# Altium schematic symbol library conn_header_1mm_st_smd.SchLib: 42 symbols
Pins are listed as number, name and electrical type; pins without a type are passive.

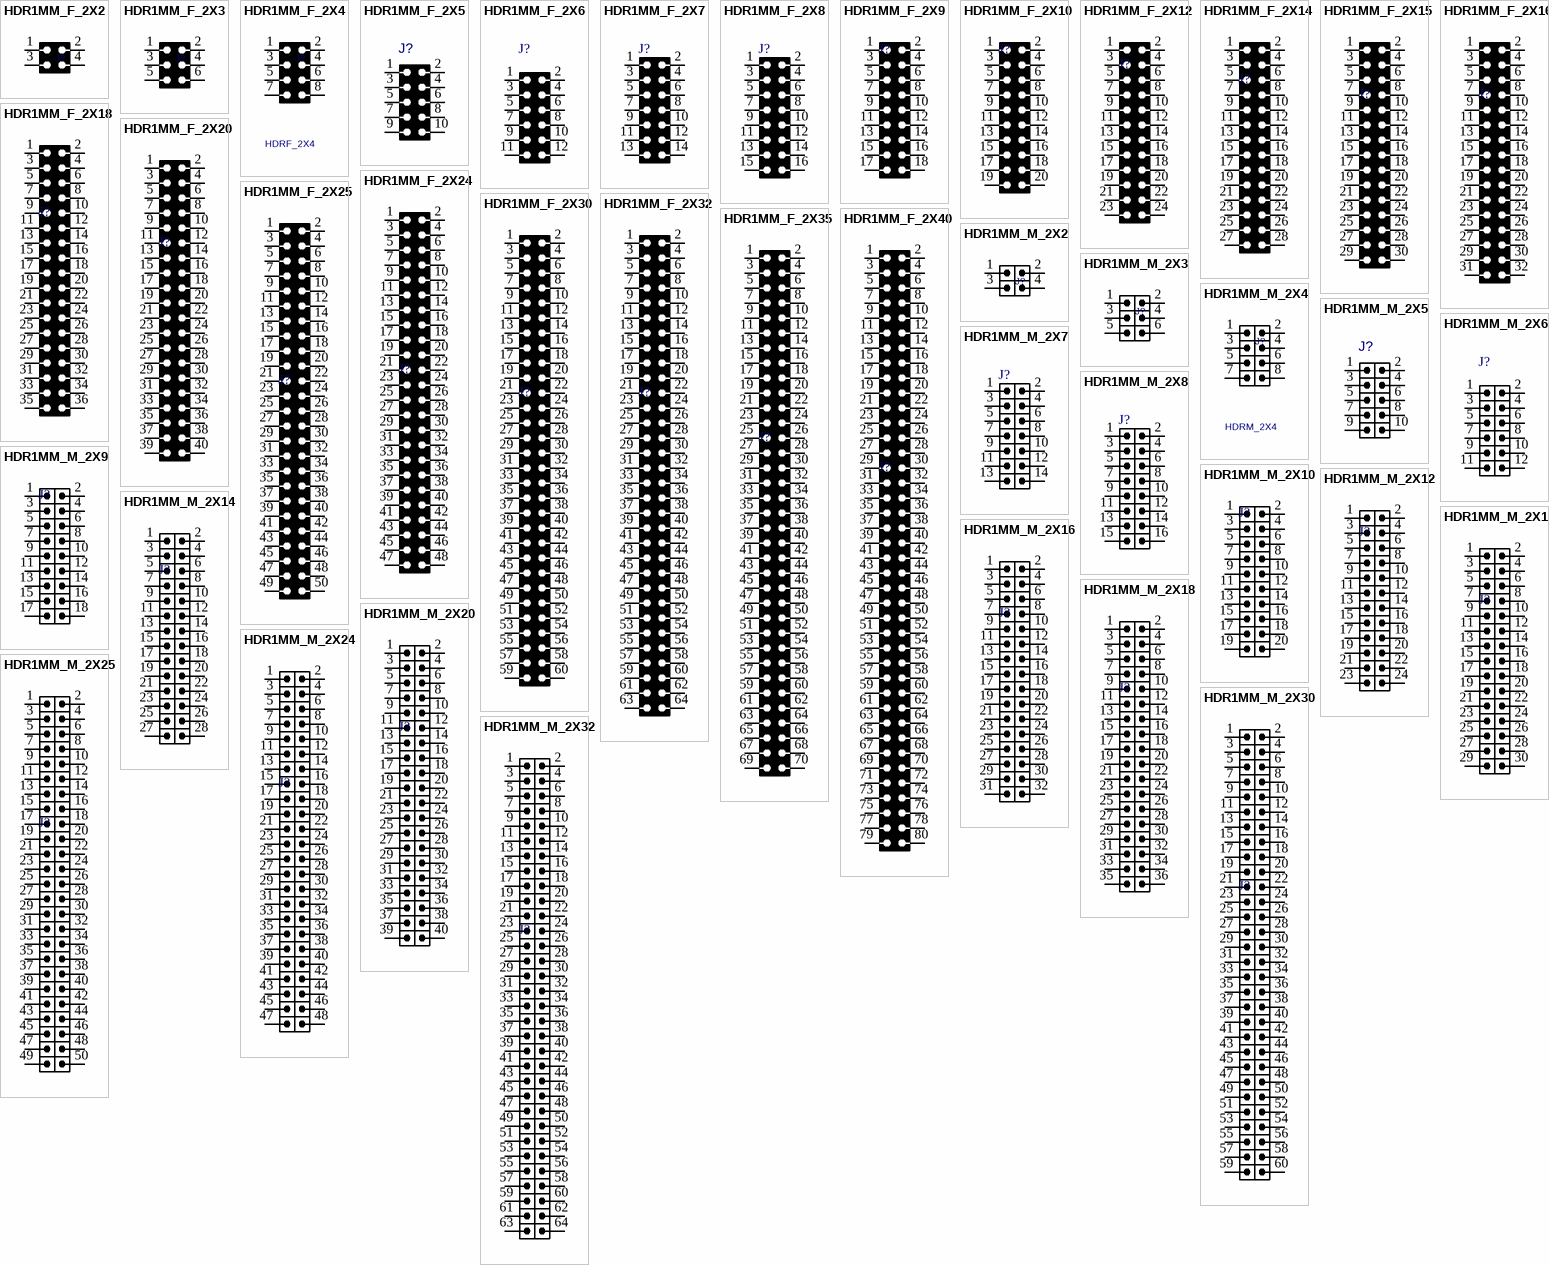
[diagram p0: symbols HDR1MM_F_2X2 to HDR1MM_M_2X32]

## HDR1MM_F_2X2
designator J?, comment HDRF_2X2  (value not drawn)
CONN, HEADER, Female, pitch: 1.0mm; MANF_P#: BC085-04-A-0390-L-C; MANF: GCT; VALUE: HDRF_2X2
footprint HDR1MM_F_2X2 (HEADER, 1mm, SMD, GCT CO BC084 and BC085)
pins: 1, 2, 3, 4

## HDR1MM_F_2X3
designator J?, comment HDRF_2X3  (value not drawn)
CONN, HEADER, Female, pitch: 1.0mm; MANF_P#: BC084-06-A-0390-L-C; MANF: GCT; VALUE: HDRF_2X3
footprint HDR1MM_F_2X3 (HEADER, 1mm, SMD, GCT CO BC084 and BC085)
pins: 1, 2, 3, 4, 5, 6

## HDR1MM_F_2X4
designator J?, comment HDRF_2X4
CONN, HEADER, Female, pitch: 1.0mm; MANF_P#: BC084-08-A-0390-L-C; MANF: GCT; VALUE: HDRF_2X4
footprint HDR1MM_F_2X4 (HEADER, 1mm, SMD, GCT CO BC084 and BC085)
pins: 1, 2, 3, 4, 5, 6, 7, 8

## HDR1MM_F_2X5
designator J?, comment HDRF_2X5  (value not drawn)
CONN, HEADER, Female, pitch: 1.0mm; MANF: GCT; MANF_P#: BC084-10-A-0390-L-C; VALUE: HDRF_2X5
footprint HDR1MM_F_2X5 (HEADER, 1mm, SMD, GCT CO BC084 and BC085)
pins: 1, 2, 3, 4, 5, 6, 7, 8, 9, 10

## HDR1MM_F_2X6
designator J?, comment HDRF_2X6  (value not drawn)
CONN, HEADER, Female, pitch: 1.0mm; MANF: GCT; MANF_P#: BC084-12-A-0390-L-C; VALUE: HDRF_2X6
footprint HDR1MM_F_2X6 (HEADER, 1mm, SMD, GCT CO BC084 and BC085)
pins: 1, 2, 3, 4, 5, 6, 7, 8, 9, 10, 11, 12

## HDR1MM_F_2X7
designator J?, comment HDRF_2X7  (value not drawn)
CONN, HEADER, Female, pitch: 1.0mm; MANF: GCT; MANF_P#: BC084-14-A-0390-L-C; VALUE: HDRF_2X7
footprint HDR1MM_F_2X7 (HEADER, 1mm, SMD, GCT CO BC084 and BC085)
pins: 1, 2, 3, 4, 5, 6, 7, 8, 9, 10, 11, 12, 13, 14

## HDR1MM_F_2X8
designator J?, comment HDRF_2X8  (value not drawn)
CONN, HEADER, Female, pitch: 1.0mm; MANF: GCT; MANF_P#: BC084-16-A-0390-L-C; VALUE: HDRF_2X8
footprint HDR1MM_F_2X8 (HEADER, 1mm, SMD, GCT CO BC084 and BC085)
pins: 1, 2, 3, 4, 5, 6, 7, 8, 9, 10, 11, 12, 13, 14, 15, 16

## HDR1MM_F_2X9
designator J?, comment HDRF_2X9  (value not drawn)
CONN, HEADER, Female, pitch: 1.0mm; MANF: GCT; MANF_P#: BC084-18-A-0390-L-C; VALUE: HDRF_2X9
footprint HDR1MM_F_2X9 (HEADER, 1mm, SMD, GCT CO BC084 and BC085)
pins: 1, 2, 3, 4, 5, 6, 7, 8, 9, 10, 11, 12, 13, 14, 15, 16, 17, 18

## HDR1MM_F_2X10
designator J?, comment HDRF_2X10  (value not drawn)
CONN, HEADER, Female, pitch: 1.0mm; MANF: GCT; MANF_P#: BC084-20-A-0390-L-C; VALUE: HDRF_2X10
footprint HDR1MM_F_2X10 (HEADER, 1mm, SMD, GCT CO BC084 and BC085)
pins: 1, 2, 3, 4, 5, 6, 7, 8, 9, 10, 11, 12, 13, 14, 15, 16, 17, 18, 19, 20

## HDR1MM_F_2X12
designator J?, comment HDRF_2X12  (value not drawn)
CONN, HEADER, Female, pitch: 1.0mm; MANF: GCT; MANF_P#: BC084-24-A-0390-L-C; VALUE: HDRF_2X12
footprint HDR1MM_F_2X12 (HEADER, 1mm, SMD, GCT CO BC084 and BC085)
pins: 1, 2, 3, 4, 5, 6, 7, 8, 9, 10, 11, 12, 13, 14, 15, 16, 17, 18, 19, 20, 21, 22, 23, 24

## HDR1MM_F_2X14
designator J?, comment HDRF_2X14  (value not drawn)
CONN, HEADER, Female, pitch: 1.0mm; MANF: GCT; MANF_P#: BC084-28-A-0390-L-C; VALUE: HDRF_2X14
footprint HDR1MM_F_2X14 (HEADER, 1mm, SMD, GCT CO BC084 and BC085)
pins: 1, 2, 3, 4, 5, 6, 7, 8, 9, 10, 11, 12, 13, 14, 15, 16, 17, 18, 19, 20, 21, 22, 23, 24, 25, 26, 27, 28

## HDR1MM_F_2X15
designator J?, comment HDRF_2X15  (value not drawn)
CONN, HEADER, Female, pitch: 1.0mm; MANF: GCT; MANF_P#: BC084-30-A-0390-L-C; VALUE: HDRF_2X15
footprint HDR1MM_F_2X15 (HEADER, 1mm, SMD, GCT CO BC084 and BC085)
pins: 1, 2, 3, 4, 5, 6, 7, 8, 9, 10, 11, 12, 13, 14, 15, 16, 17, 18, 19, 20, 21, 22, 23, 24, 25, 26, 27, 28, 29, 30

## HDR1MM_F_2X16
designator J?, comment HDRF_2X16  (value not drawn)
CONN, HEADER, Female, pitch: 1.0mm; MANF: GCT; MANF_P#: BC084-32-A-0390-L-C; VALUE: HDRF_2X16
footprint HDR1MM_F_2X16 (HEADER, 1mm, SMD, GCT CO BC084 and BC085)
pins: 1, 2, 3, 4, 5, 6, 7, 8, 9, 10, 11, 12, 13, 14, 15, 16, 17, 18, 19, 20, 21, 22, 23, 24, 25, 26, 27, 28, 29, 30, 31, 32

## HDR1MM_F_2X18
designator J?, comment HDRF_2X18  (value not drawn)
CONN, HEADER, Female, pitch: 1.0mm; MANF: GCT; MANF_P#: BC084-36-A-0390-L-C; VALUE: HDRF_2X18
footprint HDR1MM_F_2X18 (HEADER, 1mm, SMD, GCT CO BC084 and BC085)
pins: 1, 2, 3, 4, 5, 6, 7, 8, 9, 10, 11, 12, 13, 14, 15, 16, 17, 18, 19, 20, 21, 22, 23, 24, 25, 26, 27, 28, 29, 30, 31, 32, 33, 34, 35, 36

## HDR1MM_F_2X20
designator J?, comment HDRF_2X20  (value not drawn)
CONN, HEADER, Female, pitch: 1.0mm; MANF: GCT; MANF_P#: BC084-40-A-0390-L-C; VALUE: HDRF_2X20
footprint HDR1MM_F_2X20 (HEADER, 1mm, SMD, GCT CO BC084 and BC085)
pins: 1, 2, 3, 4, 5, 6, 7, 8, 9, 10, 11, 12, 13, 14, 15, 16, 17, 18, 19, 20, 21, 22, 23, 24, 25, 26, 27, 28, 29, 30, 31, 32, 33, 34, 35, 36, 37, 38, 39, 40

## HDR1MM_F_2X24
designator J?, comment HDRF_2X24  (value not drawn)
CONN, HEADER, Female, pitch: 1.0mm; MANF: GCT; MANF_P#: BC084-48-A-0390-L-C; VALUE: HDRF_2X24
footprint HDR1MM_F_2X24 (HEADER, 1mm, SMD, GCT CO BC084 and BC085)
pins: 1, 2, 3, 4, 5, 6, 7, 8, 9, 10, 11, 12, 13, 14, 15, 16, 17, 18, 19, 20, 21, 22, 23, 24, 25, 26, 27, 28, 29, 30, 31, 32, 33, 34, 35, 36, 37, 38, 39, 40, 41, 42, 43, 44, 45, 46, 47, 48

## HDR1MM_F_2X25
designator J?, comment HDRF_2X25  (value not drawn)
CONN, HEADER, Female, pitch: 1.0mm; MANF: GCT; MANF_P#: BC084-50-A-0390-L-C; VALUE: HDRF_2X25
footprint HDR1MM_F_2X25 (HEADER, 1mm, SMD, GCT CO BC084 and BC085)
pins: 1, 2, 3, 4, 5, 6, 7, 8, 9, 10, 11, 12, 13, 14, 15, 16, 17, 18, 19, 20, 21, 22, 23, 24, 25, 26, 27, 28, 29, 30, 31, 32, 33, 34, 35, 36, 37, 38, 39, 40, 41, 42, 43, 44, 45, 46, 47, 48, 49, 50

## HDR1MM_F_2X30
designator J?, comment HDRF_2X30  (value not drawn)
CONN, HEADER, Female, pitch: 1.0mm; MANF: GCT; MANF_P#: BC084-60-A-0390-L-C; VALUE: HDRF_2X30
footprint HDR1MM_F_2X30 (HEADER, 1mm, SMD, GCT CO BC084 and BC085)
pins: 1, 2, 3, 4, 5, 6, 7, 8, 9, 10, 11, 12, 13, 14, 15, 16, 17, 18, 19, 20, 21, 22, 23, 24, 25, 26, 27, 28, 29, 30, 31, 32, 33, 34, 35, 36, 37, 38, 39, 40, 41, 42, 43, 44, 45, 46, 47, 48, 49, 50, 51, 52, 53, 54, 55, 56, 57, 58, 59, 60

## HDR1MM_F_2X32
designator J?, comment HDRF_2X32  (value not drawn)
CONN, HEADER, Female, pitch: 1.0mm; MANF: GCT; MANF_P#: BC084-64-A-0390-L-C; VALUE: HDRF_2X32
footprint HDR1MM_F_2X32 (HEADER, 1mm, SMD, GCT CO BC084 and BC085)
pins: 1, 2, 3, 4, 5, 6, 7, 8, 9, 10, 11, 12, 13, 14, 15, 16, 17, 18, 19, 20, 21, 22, 23, 24, 25, 26, 27, 28, 29, 30, 31, 32, 33, 34, 35, 36, 37, 38, 39, 40, 41, 42, 43, 44, 45, 46, 47, 48, 49, 50, 51, 52, 53, 54, 55, 56, 57, 58, 59, 60, 61, 62, 63, 64

## HDR1MM_F_2X35
designator J?, comment HDR_F_2X35  (value not drawn)
CONN, HEADER, Female, pitch: 1.0mm; MANF: GCT; MANF_P#: BC084-70-A-0390-L-C; VALUE: HDR_F_2X35
footprint HDR1MM_F_2X35 (HEADER, 1mm, SMD, GCT CO BC084 and BC085)
pins: 1, 2, 3, 4, 5, 6, 7, 8, 9, 10, 11, 12, 13, 14, 15, 16, 17, 18, 19, 20, 21, 22, 23, 24, 25, 26, 27, 28, 29, 30, 31, 32, 33, 34, 35, 36, 37, 38, 39, 40, 41, 42, 43, 44, 45, 46, 47, 48, 49, 50, 51, 52, 53, 54, 55, 56, 57, 58, 59, 60, 61, 62, 63, 64, 65, 66, 67, 68, 69, 70

## HDR1MM_F_2X40
designator J?, comment HDR_F_2X40  (value not drawn)
CONN, HEADER, Female, pitch: 1.0mm; MANF: GCT; MANF_P#: BC084-80-A-0390-L-C; VALUE: HDR_F_2X40
footprint HDR1MM_F_2X40 (HEADER, 1mm, SMD, GCT CO BC084 and BC085)
pins: 1, 2, 3, 4, 5, 6, 7, 8, 9, 10, 11, 12, 13, 14, 15, 16, 17, 18, 19, 20, 21, 22, 23, 24, 25, 26, 27, 28, 29, 30, 31, 32, 33, 34, 35, 36, 37, 38, 39, 40, 41, 42, 43, 44, 45, 46, 47, 48, 49, 50, 51, 52, 53, 54, 55, 56, 57, 58, 59, 60, 61, 62, 63, 64, 65, 66, 67, 68, 69, 70, 71, 72, 73, 74, 75, 76, 77, 78, 79, 80

## HDR1MM_M_2X2
designator J?, comment HDRM_2X2  (value not drawn)
CONN, HEADER, Male, pitch: 1.0mm; MANF_P#: BC050-04A-K0-0200-0160-0480-LB; MANF: GCT; VALUE: HDRM_2X2
footprint HDR1MM_M_2X2 (HEADER, 1mm, SMD)
pins: 1, 2, 3, 4

## HDR1MM_M_2X3
designator J?, comment HDRM_2X3  (value not drawn)
CONN, HEADER, Male, pitch: 1.0mm; MANF_P#: BC050-06A-K0-0200-0160-0480-LB; MANF: GCT; VALUE: HDRM_2X3
footprint HDR1MM_M_2X3 (HEADER, 1mm, SMD)
pins: 1, 2, 3, 4, 5, 6

## HDR1MM_M_2X4
designator J?, comment HDRM_2X4
CONN, HEADER, Male, pitch: 1.0mm; MANF_P#: BC050-08A-K0-0200-0160-0480-LB; MANF: GCT; VALUE: HDRM_2X4
footprint HDR1MM_M_2X4 (HEADER, 1mm, SMD)
pins: 1, 2, 3, 4, 5, 6, 7, 8

## HDR1MM_M_2X5
designator J?, comment HDRM_2X5  (value not drawn)
CONN, HEADER, Male, pitch: 1.0mm; MANF: GCT; MANF_P#: BC050-10A-K0-0200-0160-0480-LB; VALUE: HDRM_2X5
footprint HDR1MM_M_2X5 (HEADER, 1mm, SMD)
pins: 1, 2, 3, 4, 5, 6, 7, 8, 9, 10

## HDR1MM_M_2X6
designator J?, comment HDRM_2X6  (value not drawn)
CONN, HEADER, Male, pitch: 1.0mm; MANF: GCT; MANF_P#: BC050-12A-K0-0200-0160-0480-LB; VALUE: HDRM_2X6
footprint HDR1MM_M_2X6 (HEADER, 1mm, SMD)
pins: 1, 2, 3, 4, 5, 6, 7, 8, 9, 10, 11, 12

## HDR1MM_M_2X7
designator J?, comment HDRM_2X7  (value not drawn)
CONN, HEADER, Male, pitch: 1.0mm; MANF: GCT; MANF_P#: BC050-14A-K0-0200-0160-0480-LB; VALUE: HDRM_2X7
footprint HDR1MM_M_2X7 (HEADER, 1mm, SMD)
pins: 1, 2, 3, 4, 5, 6, 7, 8, 9, 10, 11, 12, 13, 14

## HDR1MM_M_2X8
designator J?, comment HDRM_2X8  (value not drawn)
CONN, HEADER, Male, pitch: 1.0mm; MANF: GCT; MANF_P#: BC050-16A-K0-0200-0160-0480-LB; VALUE: HDRM_2X8
footprint HDR1MM_M_2X8 (HEADER, 1mm, SMD)
pins: 1, 2, 3, 4, 5, 6, 7, 8, 9, 10, 11, 12, 13, 14, 15, 16

## HDR1MM_M_2X9
designator J?, comment HDRM_2X9  (value not drawn)
CONN, HEADER, Male, pitch: 1.0mm; MANF: GCT; MANF_P#: BC050-18A-K0-0200-0160-0480-LB; VALUE: HDRM_2X9
footprint HDR1MM_M_2X9 (HEADER, 1mm, SMD)
pins: 1, 2, 3, 4, 5, 6, 7, 8, 9, 10, 11, 12, 13, 14, 15, 16, 17, 18

## HDR1MM_M_2X10
designator J?, comment HDRM_2X10  (value not drawn)
CONN, HEADER, Male, pitch: 1.0mm; MANF: GCT; MANF_P#: BC050-20A-K0-0200-0160-0480-LB; VALUE: HDRM_2X10
footprint HDR1MM_M_2X10 (HEADER, 1mm, SMD)
pins: 1, 2, 3, 4, 5, 6, 7, 8, 9, 10, 11, 12, 13, 14, 15, 16, 17, 18, 19, 20

## HDR1MM_M_2X12
designator J?, comment HDRM_2X12  (value not drawn)
CONN, HEADER, Male, pitch: 1.0mm; MANF: GCT; MANF_P#: BC050-24A-K0-0200-0160-0480-LB; VALUE: HDRM_2X12
footprint HDR1MM_M_2X12 (HEADER, 1mm, SMD)
pins: 1, 2, 3, 4, 5, 6, 7, 8, 9, 10, 11, 12, 13, 14, 15, 16, 17, 18, 19, 20, 21, 22, 23, 24

## HDR1MM_M_2X14
designator J?, comment HDRM_2X14  (value not drawn)
CONN, HEADER, Male, pitch: 1.0mm; MANF: GCT; MANF_P#: BC050-28A-K0-0200-0160-0480-LB; VALUE: HDRM_2X14
footprint HDR1MM_M_2X14 (HEADER, 1mm, SMD)
pins: 1, 2, 3, 4, 5, 6, 7, 8, 9, 10, 11, 12, 13, 14, 15, 16, 17, 18, 19, 20, 21, 22, 23, 24, 25, 26, 27, 28

## HDR1MM_M_2X15
designator J?, comment HDRM_2X15  (value not drawn)
CONN, HEADER, Male, pitch: 1.0mm; MANF: GCT; MANF_P#: BC050-30A-K0-0200-0160-0480-LB; VALUE: HDRM_2X15
footprint HDR1MM_M_2X15 (HEADER, 1mm, SMD)
pins: 1, 2, 3, 4, 5, 6, 7, 8, 9, 10, 11, 12, 13, 14, 15, 16, 17, 18, 19, 20, 21, 22, 23, 24, 25, 26, 27, 28, 29, 30

## HDR1MM_M_2X16
designator J?, comment HDRM_2X16  (value not drawn)
CONN, HEADER, Male, pitch: 1.0mm; MANF: GCT; MANF_P#: BC050-32A-K0-0200-0160-0480-LB; VALUE: HDRM_2X16
footprint HDR1MM_M_2X16 (HEADER, 1mm, SMD)
pins: 1, 2, 3, 4, 5, 6, 7, 8, 9, 10, 11, 12, 13, 14, 15, 16, 17, 18, 19, 20, 21, 22, 23, 24, 25, 26, 27, 28, 29, 30, 31, 32

## HDR1MM_M_2X18
designator J?, comment HDRM_2X18  (value not drawn)
CONN, HEADER, Male, pitch: 1.0mm; MANF: GCT; MANF_P#: BC050-36A-K0-0200-0160-0480-LB; VALUE: HDRM_2X18
footprint HDR1MM_M_2X18 (HEADER, 1mm, SMD)
pins: 1, 2, 3, 4, 5, 6, 7, 8, 9, 10, 11, 12, 13, 14, 15, 16, 17, 18, 19, 20, 21, 22, 23, 24, 25, 26, 27, 28, 29, 30, 31, 32, 33, 34, 35, 36

## HDR1MM_M_2X20
designator J?, comment HDRM_2X20  (value not drawn)
CONN, HEADER, Male, pitch: 1.0mm; MANF: GCT; MANF_P#: BC050-40A-K0-0200-0160-0480-LB; VALUE: HDRM_2X20
footprint HDR1MM_M_2X20 (HEADER, 1mm, SMD)
pins: 1, 2, 3, 4, 5, 6, 7, 8, 9, 10, 11, 12, 13, 14, 15, 16, 17, 18, 19, 20, 21, 22, 23, 24, 25, 26, 27, 28, 29, 30, 31, 32, 33, 34, 35, 36, 37, 38, 39, 40

## HDR1MM_M_2X24
designator J?, comment HDR_M_2X24  (value not drawn)
CONN, HEADER, Male, pitch: 1.0mm; MANF: GCT; MANF_P#: BC050-48A-K0-0200-0160-0480-LB; VALUE: HDR_M_2X24
footprint HDR1MM_M_2X24 (HEADER, 1mm, SMD)
pins: 1, 2, 3, 4, 5, 6, 7, 8, 9, 10, 11, 12, 13, 14, 15, 16, 17, 18, 19, 20, 21, 22, 23, 24, 25, 26, 27, 28, 29, 30, 31, 32, 33, 34, 35, 36, 37, 38, 39, 40, 41, 42, 43, 44, 45, 46, 47, 48

## HDR1MM_M_2X25
designator J?, comment HDR_M_2X25  (value not drawn)
CONN, HEADER, Male, pitch: 1.0mm; MANF: GCT; MANF_P#: BC050-50A-K0-0200-0160-0480-LB; VALUE: HDR_M_2X25
footprint HDR1MM_M_2X25 (HEADER, 1mm, SMD)
pins: 1, 2, 3, 4, 5, 6, 7, 8, 9, 10, 11, 12, 13, 14, 15, 16, 17, 18, 19, 20, 21, 22, 23, 24, 25, 26, 27, 28, 29, 30, 31, 32, 33, 34, 35, 36, 37, 38, 39, 40, 41, 42, 43, 44, 45, 46, 47, 48, 49, 50

## HDR1MM_M_2X30
designator J?, comment HDR_M_2X30  (value not drawn)
CONN, HEADER, Male, pitch: 1.0mm; MANF: GCT; MANF_P#: BC050-60A-K0-0200-0160-0480-LB; VALUE: HDR_M_2X30
footprint HDR1MM_M_2X30 (HEADER, 1mm, SMD)
pins: 1, 2, 3, 4, 5, 6, 7, 8, 9, 10, 11, 12, 13, 14, 15, 16, 17, 18, 19, 20, 21, 22, 23, 24, 25, 26, 27, 28, 29, 30, 31, 32, 33, 34, 35, 36, 37, 38, 39, 40, 41, 42, 43, 44, 45, 46, 47, 48, 49, 50, 51, 52, 53, 54, 55, 56, 57, 58, 59, 60

## HDR1MM_M_2X32
designator J?, comment HDR_M_2X32  (value not drawn)
CONN, HEADER, Male, pitch: 1.0mm; MANF: GCT; MANF_P#: BC050-64A-K0-0200-0160-0480-LB; VALUE: HDR_M_2X32
footprint HDR1MM_M_2X32 (HEADER, 1mm, SMD)
pins: 1, 2, 3, 4, 5, 6, 7, 8, 9, 10, 11, 12, 13, 14, 15, 16, 17, 18, 19, 20, 21, 22, 23, 24, 25, 26, 27, 28, 29, 30, 31, 32, 33, 34, 35, 36, 37, 38, 39, 40, 41, 42, 43, 44, 45, 46, 47, 48, 49, 50, 51, 52, 53, 54, 55, 56, 57, 58, 59, 60, 61, 62, 63, 64

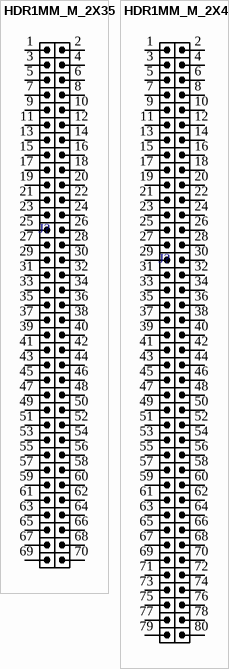
[diagram p1: symbols HDR1MM_M_2X35 to HDR1MM_M_2X40]

## HDR1MM_M_2X35
designator J?, comment HDR_M_2X35  (value not drawn)
CONN, HEADER, Male, pitch: 1.0mm; MANF: GCT; MANF_P#: BC050-70A-K0-0200-0160-0480-LB; VALUE: HDR_M_2X35
footprint HDR1MM_M_2X35 (HEADER, 1mm, SMD)
pins: 1, 2, 3, 4, 5, 6, 7, 8, 9, 10, 11, 12, 13, 14, 15, 16, 17, 18, 19, 20, 21, 22, 23, 24, 25, 26, 27, 28, 29, 30, 31, 32, 33, 34, 35, 36, 37, 38, 39, 40, 41, 42, 43, 44, 45, 46, 47, 48, 49, 50, 51, 52, 53, 54, 55, 56, 57, 58, 59, 60, 61, 62, 63, 64, 65, 66, 67, 68, 69, 70

## HDR1MM_M_2X40
designator J?, comment HDR_M_2X40  (value not drawn)
CONN, HEADER, Male, pitch: 1.0mm; MANF: GCT; MANF_P#: BC050-80A-K0-0200-0160-0480-LB; VALUE: HDR_M_2X40
footprint HDR1MM_M_2X40 (HEADER, 1mm, SMD)
pins: 1, 2, 3, 4, 5, 6, 7, 8, 9, 10, 11, 12, 13, 14, 15, 16, 17, 18, 19, 20, 21, 22, 23, 24, 25, 26, 27, 28, 29, 30, 31, 32, 33, 34, 35, 36, 37, 38, 39, 40, 41, 42, 43, 44, 45, 46, 47, 48, 49, 50, 51, 52, 53, 54, 55, 56, 57, 58, 59, 60, 61, 62, 63, 64, 65, 66, 67, 68, 69, 70, 71, 72, 73, 74, 75, 76, 77, 78, 79, 80